# EAGLE library part TPS76850QD (library TPS76850QD)
ULTRALOW QUIESCENT CURRENT 250-mA LOW DROPOUT VOLTAGE REGULATORS
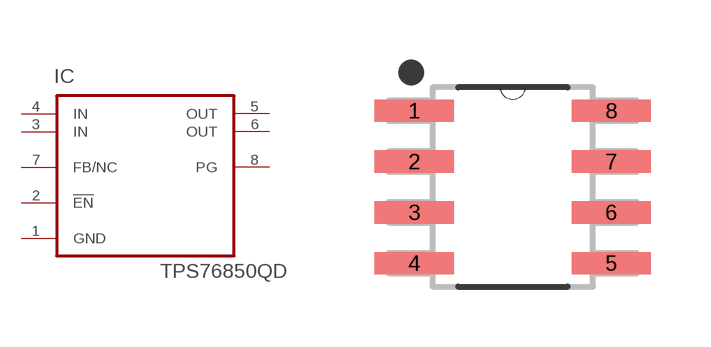
[diagram p0: symbol with the pads of SOIC127P600X175-8N; footprint SOIC127P600X175-8N]

Designator prefix IC

## TPS76850QD (AVAILABILITY: Unavailable; DESCRIPTION: Fast Transient Response, 1-A, Low-Dropout Voltage Regulators 8-SOIC -40 to 125; MF: Texas Instruments; MP: TPS76850QD; PACKAGE: SOIC-8 Texas Instruments; PRICE: None)  [SOIC127P600X175-8N]
1  GND  pas
2  !EN  in
3  IN  in
4  IN  in
5  OUT  out
6  OUT  out
7  FB/NC  nc
8  PG  out

## Footprint SOIC127P600X175-8N (pad centres in mm)
smd 1.981 x 0.559: 1 -2.464,1.905; 2 -2.464,0.635; 3 -2.464,-0.635; 4 -2.464,-1.905; 5 2.464,-1.905; 6 2.464,-0.635; 7 2.464,0.635; 8 2.464,1.905